# EAGLE library part CPL-DAC-12BIT-SOT23 (library TinWhiskers)
Digital-Analog Converter: 12-Bit, MPC4725; Package: SOT23-6; Datasheet: http://ww1.microchip.com/downloads/en/DeviceDoc/22039d.pdf
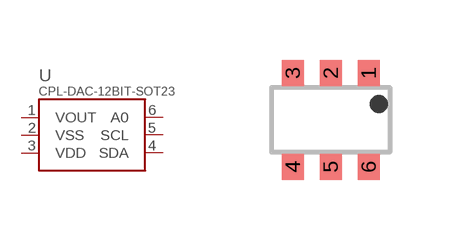
[diagram p39: symbol with the pads of SOT-23-6; footprint SOT-23-6]

Designator prefix U

## CPL-DAC-12BIT-SOT23  [SOT-23-6]
1  VOUT
2  VSS
3  VDD
4  SDA
5  SCL
6  A0

## Footprint SOT-23-6 (pad centres in mm)
SOT-23 (6-Pin)
smd 0.55 x 0.65: 1 0.95,1.175; 2 0,1.175; 3 -0.95,1.175; 4 -0.95,-1.175; 5 0,-1.175; 6 0.95,-1.175